# Altium footprint library BalloonLib.PcbLib: 20 footprints (part 1 of 2)
Each footprint in its own frame and in the unit in brackets; x right, y up, seen from the top. Pads: shape width x height; smd on the part's side, far side on the other; paste and mask are expansions set on the pad; w line width, h text height; cw(c..) or ccw(c..) is an arc to the next point about the centre after c.
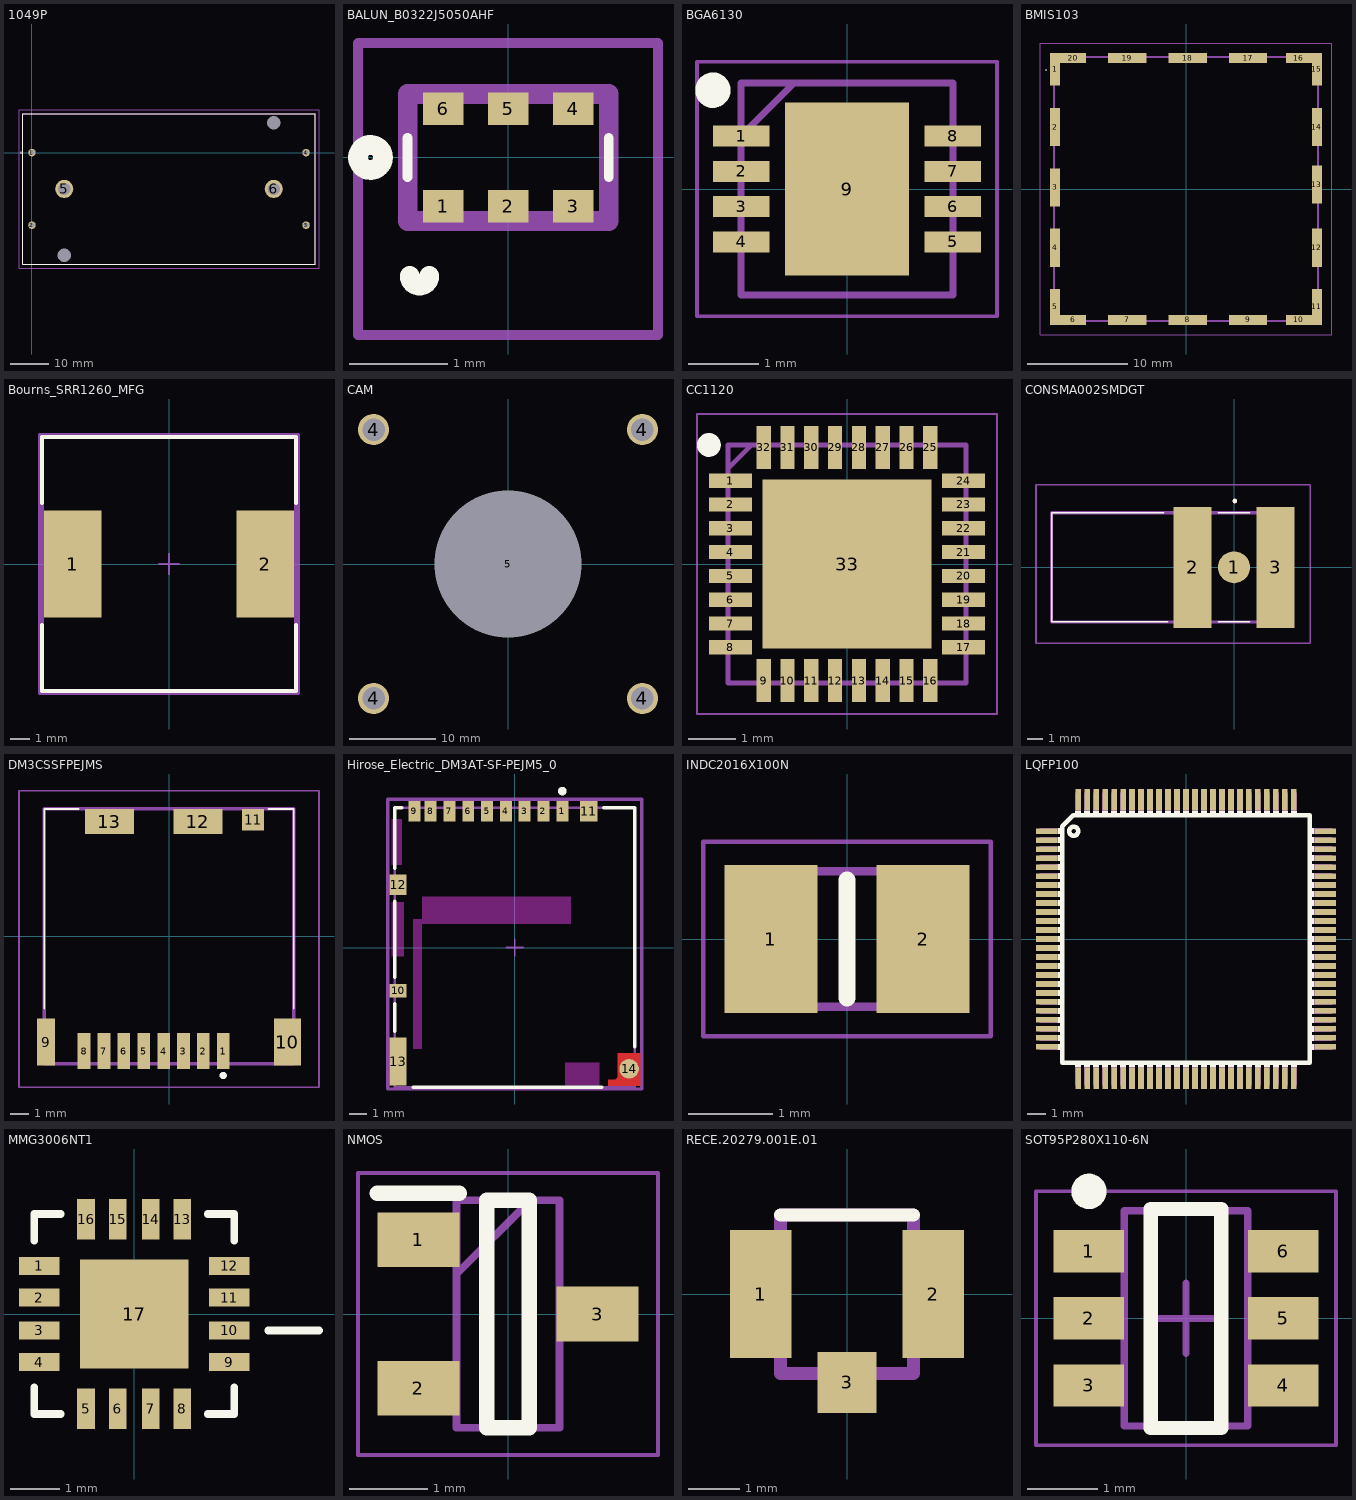
[diagram p0: the footprints below, top view; thin cyan lines are the x and y axes]

## 1049P [mm]
pads (8):
  round 1.98 hole 1.32: 1(0,0) 2(0,-19.13) 3(72.22,-19.13) 4(72.22,0)
  round 4.77 hole 3.18: 5(8.51,-9.55) 6(63.71,-9.55)
  round 1.775 hole 3.55 unplated: MH1(8.51,-27.08) MH2(63.71,7.92)
Top Overlay:
  lines w0.1: -2.42,-29.47 -2.42,10.31 74.64,10.31 74.64,-29.47 -2.42,-29.47
  lines w0.2: -2.9,-0.1 ccw(c-2.9,0) -2.9,0.1 ccw(c-2.9,0) -2.9,-0.1
Mechanical 13:
  lines w0.2: -2.42,-29.47 -2.42,10.31 74.64,10.31 74.64,-29.47 -2.42,-29.47
Mechanical 15:
  lines w0.1: -3.42,-30.47 -3.42,11.31 75.64,11.31 75.64,-30.47 -3.42,-30.47
3D body "1049P.stp": height 14.95, standoff -5, extent -2.42,-29.47 74.64,10.31

## BALUN_B0322J5050AHF [mm]
pads (6):
  rect 0.41x0.33 smd: 1(-0.66,-0.495) 2(0,-0.495) 3(0.66,-0.495) 4(0.66,0.495) 5(0,0.495) 6(-0.66,0.495)
Top Overlay:
  circle w0.2: c-1.397,0 r0.127
  lines w0.1: -1.02,-0.2 -1.02,0.2 ; 1.02,-0.2 1.02,0.2
  lines w0.2: -1,-1.2 ccw(c-0.9,-1.2) -0.8,-1.2
Mechanical 13:
  lines w0.2: -1.02,-0.645 1.02,-0.645 1.02,0.645 -1.02,0.645 -1.02,-0.645
Mechanical 15:
  lines w0.1: -1.524,-1.8 1.52,-1.8 1.52,1.16 -1.524,1.16 -1.524,-1.8
3D body "B0322J5050AHF.stp": height 0.81, standoff 0, extent -1.02,-0.645 1.02,0.645

## BGA6130 [mm]
pads (9):
  rect 0.8x0.3 smd: 1(-1.5,0.75) 2(-1.5,0.25) 3(-1.5,-0.25) 4(-1.5,-0.75) 5(1.5,-0.75) 6(1.5,-0.25) 7(1.5,0.25) 8(1.5,0.75)
  rect 1.75x2.45 smd: 9(0,0)
Top Overlay:
  circle w0.25: c-1.9,1.4 r0.125
Mechanical 13:
  lines w0.1: -1.5,0.75 -0.75,1.5 ; -1.5,-1.5 -1.5,1.5 1.5,1.5 1.5,-1.5 -1.5,-1.5
Mechanical 15:
  lines w0.05: -2.125,-1.8 -2.125,1.8 2.125,1.8 2.125,-1.8 -2.125,-1.8
3D body "BGA6130,118.stp": height 1, standoff 0, extent -1.55,-1.5 1.55,1.5

## BMIS103 [mm]
pads (20):
  rect 1x3.24 smd: 1(-13.005,11.895) 15(13.005,11.895)
  rect 1x3.8 smd: 2(-13.005,6.155) 3(-13.005,0.155) 4(-13.005,-5.845) 12(13.005,-5.845) 13(13.005,0.435) 14(13.005,6.155)
  rect 1x3.57 smd: 5(-13.005,-11.73) 11(13.005,-11.73)
  rect 2.57x1 smd: 6(-11.22,-13.015) 10(11.22,-13.015) 16(11.22,13.015) 20(-11.22,13.015)
  rect 3.8x1 smd: 7(-5.835,-13.015) 8(0.165,-13.015) 9(6.165,-13.015) 17(6.165,13.015) 18(0.165,13.015) 19(-5.835,13.015)
Top Overlay:
  lines w0.05: -13.95,11.85 cw(c-13.925,11.85) -13.9,11.85 cw(c-13.925,11.85) -13.95,11.85
Mechanical 13:
  lines w0.2: -13.105,-13.105 13.105,-13.105 13.105,13.105 -13.105,13.105 -13.105,-13.105
Mechanical 15:
  lines w0.1: -14.505,-14.515 14.505,-14.515 14.505,14.515 -14.505,14.515 -14.505,-14.515
3D body "BMI-S-103.stp": height 5.18, standoff 0, extent -13.405,-13.415 13.405,13.415

## Bourns_SRR1260_MFG [mm]
pads (2):
  rect 2.9x5.4 smd paste+0 mask+0: 1(-4.85,0) 2(4.85,0)
Top Overlay:
  lines w0.2: -6.4,-3.075 -6.4,-6.4 6.4,-6.4 6.4,-3.075 ; -6.4,3.075 -6.4,6.4 6.4,6.4 6.4,3.075
Mechanical 10:
  lines w0.2: -6.5,-6.5 6.5,-6.5 6.5,6.5 -6.5,6.5 -6.5,-6.5
  text ".Designator" at 0,0.188 h1
Mechanical 12:
  lines w0.2: -6.4,-6.4 6.4,-6.4 6.4,6.4 -6.4,6.4 -6.4,-6.4
Mechanical 15:
  lines w0.1: -0.5,0 0.5,0 ; 0,-0.5 0,0.5
  lines w0.2: -6.5,-6.5 6.5,-6.5 6.5,6.5 -6.5,6.5 -6.5,-6.5
3D body "Ind_Bourns_SRR1260-270M_eec.STEP": height 0.25, standoff 0, extent -6.5,-6.5 6.5,6.5

## CAM [mm]
pads (5):
  round 3.6 hole 2.6: 4(-15.5,-15.5) 4(-15.5,15.5) 4(15.5,-15.5) 4(15.5,15.5)
  round 1.524 hole 17: 5(0,0)
3D body "hexagonal_spacer_MF_M2.5_H05_HEX5_FTD3_MTL6.step": height 22, standoff 11, extent -18.39,-17.991 -12.61,-12.985
3D body "hexagonal_spacer_MF_M2.5_H15_HEX5_FTD6_MTL6.step": height 15, standoff -6, extent -18.39,-18.003 -12.61,-12.997
3D body "hexagonal_spacer_MF_M2.5_H15_HEX5_FTD6_MTL6.step": height 15, standoff -6, extent 12.61,12.997 18.39,18.003
3D body "hexagonal_spacer_MF_M2.5_H15_HEX5_FTD6_MTL6.step": height 15, standoff -6, extent -18.39,12.997 -12.61,18.003
3D body "hexagonal_spacer_MF_M2.5_H05_HEX5_FTD3_MTL6.step": height 22, standoff 11, extent -18.39,12.997 -12.61,18.003
3D body "hexagonal_spacer_MF_M2.5_H15_HEX5_FTD6_MTL6.step": height 15, standoff -6, extent 12.61,-18.003 18.39,-12.997
3D body "3dmodel.step": height 17.28, standoff 10.98, extent -2.556,-18 2.524,-14.6
3D body "volume-usb3-ueye-le-boardlevel-m12.X_T": height 22.95, standoff 0.5, extent -18,-18 18,18

## CC1120 [mm]
pads (33):
  rect 0.9x0.3 smd: 1(-2.45,1.75) 2(-2.45,1.25) 3(-2.45,0.75) 4(-2.45,0.25) 5(-2.45,-0.25) 6(-2.45,-0.75) 7(-2.45,-1.25) 8(-2.45,-1.75) 17(2.45,-1.75) 18(2.45,-1.25) 19(2.45,-0.75) 20(2.45,-0.25) 21(2.45,0.25) 22(2.45,0.75) 23(2.45,1.25) 24(2.45,1.75)
  rect 0.3x0.9 smd: 9(-1.75,-2.45) 10(-1.25,-2.45) 11(-0.75,-2.45) 12(-0.25,-2.45) 13(0.25,-2.45) 14(0.75,-2.45) 15(1.25,-2.45) 16(1.75,-2.45) 25(1.75,2.45) 26(1.25,2.45) 27(0.75,2.45) 28(0.25,2.45) 29(-0.25,2.45) 30(-0.75,2.45) 31(-1.25,2.45) 32(-1.75,2.45)
  rect 3.55x3.55 smd: 33(0,0)
Top Overlay:
  circle w0.25: c-2.9,2.5 r0.125
Mechanical 13:
  lines w0.1: -2.5,2 -2,2.5 ; -2.5,-2.5 2.5,-2.5 2.5,2.5 -2.5,2.5 -2.5,-2.5
Mechanical 15:
  lines w0.05: -3.15,-3.15 3.15,-3.15 3.15,3.15 -3.15,3.15 -3.15,-3.15
3D body "CC1120RHBT.stp": height 1, standoff 0, extent -2.55,-2.55 2.55,2.55

## CONSMA002SMDGT [mm]
pads (3):
  round 2.05 smd: 1(0,0)
  rect 2.44x7.76 smd: 2(-2.66,0) 3(2.66,0)
Top Overlay:
  lines w0.1: -11.7,-3.5 -4.25,-3.5 -11.7,-3.5 ; -11.7,-3.5 -11.7,3.5 ; -11.7,-3.5 -11.7,3.5 ; -11.7,3.5 -4.5,3.5 -11.7,3.5 ; -1,-3.5 1,-3.5 -1,-3.5 ; -1,3.5 1,3.5 -1,3.5
  lines w0.2: 0,4.25 ccw(c0.05,4.25) 0.1,4.25 ; 0,4.25 cw(c0.05,4.25) 0.1,4.25 ; 0,4.25 ccw(c0.05,4.25) 0.1,4.25
Mechanical 13:
  lines w0.2: -11.7,-3.5 3.5,-3.5 3.5,3.5 -11.7,3.5 -11.7,-3.5
Mechanical 15:
  lines w0.1: -12.7,-4.88 4.88,-4.88 4.88,5.3 -12.7,5.3 -12.7,-4.88

## DM3CSSFPEJMS [mm]
pads (13):
  rect 0.7x2 smd: 1(3,-6.35) 2(1.9,-6.35) 3(0.8,-6.35) 4(-0.3,-6.35) 5(-1.4,-6.35) 6(-2.5,-6.35) 7(-3.6,-6.35) 8(-4.7,-6.35)
  rect 1x2.6 smd: 9(-6.8,-5.85)
  rect 1.5x2.6 smd: 10(6.55,-5.85)
  rect 1.2x1.2 smd: 11(4.65,6.45)
  rect 2.7x1.4 smd: 12(1.6,6.35) 13(-3.3,6.35)
Top Overlay:
  lines w0.1: -6.9,-4 -6.9,7.05 -6.8,7.05 -5,7.05 ; 5.5,7.05 6.55,7.05 6.9,7.05 6.9,-4
  lines w0.2: 2.9,-7.7 cw(c3,-7.7) 3.1,-7.7 cw(c3,-7.7) 2.9,-7.7
Mechanical 13:
  lines w0.2: -6.9,-7.05 -6.9,7.05 6.9,7.05 6.9,-7.05 -6.9,-7.05
Mechanical 15:
  lines w0.1: -8.3,-8.35 -8.3,8.05 8.3,8.05 8.3,-8.35 -8.3,-8.35
3D body "DM3CS-SF-PEJMS.stp": height 1.93, standoff 0, extent -7.2,-7.28 7.15,7.05

## Hirose_Electric_DM3AT-SF-PEJM5_0 [mm]
pads (14):
  rect 0.7x1.2 smd paste+0 mask+0: 1(2.775,7.975) 2(1.675,7.975) 3(0.575,7.975) 4(-0.525,7.975) 5(-1.625,7.975) 6(-2.725,7.975) 7(-3.825,7.975) 8(-4.925,7.975) 9(-5.875,7.975)
  rect 1x0.8 smd paste+0 mask+0: 10(-6.825,-2.525)
  rect 1x1.2 smd paste+0 mask+0: 11(4.325,7.975) 12(-6.825,3.675)
  rect 1x2.8 smd paste+0 mask+0: 13(-6.825,-6.675)
  round 1.145 smd paste+0 mask+0: 14(6.689,-7.092)
Top Layer:
  region: 6.025,-6.175 7.325,-6.175 7.325,-8.075 5.475,-8.075 5.475,-7.725 5.875,-7.725 6.025,-7.575
Top Overlay:
  circle w0.25: c2.775,9.15 r0.125
  lines w0.2: -7.025,-4.9 -7.025,-3.3 ; -7.025,-1.75 -7.025,2.7 ; -7.025,4.65 -7.025,8.175 -6.6,8.175 ; -5.95,-8.175 5.1,-8.175 ; 5.2,8.175 7.025,8.175 7.025,-5.8
Keep-Out Layer:
  rectangle: 2.925,-8.075 4.953,-6.725
  rectangle: -5.425,1.375 3.275,2.975
  rectangle: -5.969,-5.925 -5.425,1.675
  rectangle: -7.225,-0.525 -6.475,2.667
  rectangle: -7.225,4.826 -6.604,7.525
Mechanical 10:
  lines w0.2: -7.425,-8.275 -7.425,8.675 7.425,8.675 7.425,-8.275 -7.425,-8.275
  text ".Designator" at 0,0.2 h1
Mechanical 12:
  lines w0.15: -7.025,-8.175 -7.025,8.175 7.025,8.175 7.025,-8.175 -7.025,-8.175
Mechanical 15:
  lines w0.1: -0.5,0 0.5,0 ; 0,-0.5 0,0.5
  lines w0.2: -7.425,-8.275 -7.425,8.675 7.425,8.675 7.425,-8.275 -7.425,-8.275
3D body "Conn_Hirose_Electric_DM3AT-SF-PEJM5_eec.STEP": height 0.25, standoff 0, extent -7.425,-8.275 7.425,8.675

## INDC2016X100N [mm]
pads (2):
  rect 1.1x1.75 smd: 1(-0.9,0) 2(0.9,0)
Top Overlay:
  lines w0.2: 0,-0.7 0,0.7
Mechanical 13:
  lines w0.1: -1,-0.8 1,-0.8 1,0.8 -1,0.8 -1,-0.8
Mechanical 15:
  lines w0.05: -1.7,-1.15 1.7,-1.15 1.7,1.15 -1.7,1.15 -1.7,-1.15
3D body "IHHP0806AZER2R2M01.stp": height 1, standoff 0, extent -1,-0.8 1,0.8

## LQFP100 [mm]
pads (100):
  rect 1.2x0.32 smd: 1(-7.75,6) 2(-7.75,5.5) 3(-7.75,5) 4(-7.75,4.5) 5(-7.75,4) 6(-7.75,3.5) 7(-7.75,3) 8(-7.75,2.5) 9(-7.75,2) 10(-7.75,1.5) 11(-7.75,1) 12(-7.75,0.5) 13(-7.75,0) 14(-7.75,-0.5) 15(-7.75,-1) 16(-7.75,-1.5) 17(-7.75,-2) 18(-7.75,-2.5) 19(-7.75,-3) 20(-7.75,-3.5) 21(-7.75,-4) 22(-7.75,-4.5) 23(-7.75,-5) 24(-7.75,-5.5) 25(-7.75,-6) 51(7.75,-6) 52(7.75,-5.5) 53(7.75,-5) 54(7.75,-4.5) 55(7.75,-4) 56(7.75,-3.5) 57(7.75,-3) 58(7.75,-2.5) 59(7.75,-2) 60(7.75,-1.5) 61(7.75,-1) 62(7.75,-0.5) 63(7.75,0) 64(7.75,0.5) 65(7.75,1) 66(7.75,1.5) 67(7.75,2) 68(7.75,2.5) 69(7.75,3) 70(7.75,3.5) 71(7.75,4) 72(7.75,4.5) 73(7.75,5) 74(7.75,5.5) 75(7.75,6)
  rect 0.32x1.2 smd: 26(-6,-7.75) 27(-5.5,-7.75) 28(-5,-7.75) 29(-4.5,-7.75) 30(-4,-7.75) 31(-3.5,-7.75) 32(-3,-7.75) 33(-2.5,-7.75) 34(-2,-7.75) 35(-1.5,-7.75) 36(-1,-7.75) 37(-0.5,-7.75) 38(0,-7.75) 39(0.5,-7.75) 40(1,-7.75) 41(1.5,-7.75) 42(2,-7.75) 43(2.5,-7.75) 44(3,-7.75) 45(3.5,-7.75) 46(4,-7.75) 47(4.5,-7.75) 48(5,-7.75) 49(5.5,-7.75) 50(6,-7.75) 76(6,7.75) 77(5.5,7.75) 78(5,7.75) 79(4.5,7.75) 80(4,7.75) 81(3.5,7.75) 82(3,7.75) 83(2.5,7.75) 84(2,7.75) 85(1.5,7.75) 86(1,7.75) 87(0.5,7.75) 88(0,7.75) 89(-0.5,7.75) 90(-1,7.75) 91(-1.5,7.75) 92(-2,7.75) 93(-2.5,7.75) 94(-3,7.75) 95(-3.5,7.75) 96(-4,7.75) 97(-4.5,7.75) 98(-5,7.75) 99(-5.5,7.75) 100(-6,7.75)
Top Overlay:
  drawing of 106 lines, arcs and shapes, not listed
Mechanical 4:
  drawing of 200 lines, arcs and shapes, not listed

## MMG3006NT1 [mil]
pads (17):
  rect 32x14 smd: 1(-75,38) 2(-75,13) 3(-75,-13) 4(-75,-38) 9(75,-38) 10(75,-13) 11(75,13) 12(75,38)
  rect 14x32 smd: 5(-38,-75) 6(-13,-75) 7(13,-75) 8(38,-75) 13(38,75) 14(13,75) 15(-13,75) 16(-38,75)
  rect 86x86 smd: 17(0,0)
Top Overlay:
  lines w6: -79,-58 -79,-79 -58,-79 ; -79,58 -79,79 -58,79 ; 58,-79 79,-79 79,-58 ; 58,79 79,79 79,58 ; 106,-13 146,-13

## NMOS [mm]
pads (3):
  rect 1.05x0.7 smd: 1(-1.15,0.95) 2(-1.15,-0.95) 3(1.15,0)
Top Overlay:
  lines w0.2: -1.675,1.55 -0.625,1.55 ; -0.275,-1.46 0.275,-1.46 0.275,1.46 -0.275,1.46 -0.275,-1.46
Mechanical 13:
  lines w0.1: -0.662,0.51 0.288,1.46 ; -0.662,-1.46 0.662,-1.46 0.662,1.46 -0.662,1.46 -0.662,-1.46
Mechanical 15:
  lines w0.05: -1.925,-1.81 1.925,-1.81 1.925,1.81 -1.925,1.81 -1.925,-1.81
3D body "FDV305N.stp": height 1.2, standoff 0, extent -1.2,-1.46 1.2,1.46

## RECE.20279.001E.01 [mm]
pads (3):
  rect 1.2x2.5 smd: 1(-1.685,0) 2(1.685,0)
  rect 1.15x1.2 smd: 3(0,-1.73)
Top Overlay:
  lines w0.254: -1.3,1.55 1.3,1.55
Mechanical 13:
  lines w0.254: -1.3,-1.55 -1.3,1.55 1.3,1.55 1.3,-1.55 -1.3,-1.55

## SOT95P280X110-6N [mm] "SOT23, 6-Leads, Body 2.90x2.80mm, Pitch 0.95mm, IPC Medium Density"
height 1.1
pads (6):
  rect 1x0.6 smd: 1(-1.375,0.95) 2(-1.375,0) 3(-1.375,-0.95) 4(1.375,-0.95) 5(1.375,0) 6(1.375,0.95)
Top Overlay:
  circle w0.25: c-1.375,1.8 r0.125
  lines w0.2: -0.5,-1.55 0.5,-1.55 0.5,1.55 -0.5,1.55 -0.5,-1.55
Mechanical 13:
  lines w0.1: -0.875,-1.525 -0.875,1.525 0.875,1.525 0.875,-1.525 -0.875,-1.525
Mechanical 15:
  lines w0.05: -2.125,-1.8 -2.125,1.8 2.125,1.8 2.125,-1.8 -2.125,-1.8
  lines w0.1: -0.5,0 0.5,0 ; 0,-0.5 0,0.5
3D body "User Library-SOT-23-6-3.step": height 0.86, standoff 0, extent -1.464,-1.48 1.345,1.52